# Altium footprint library Footprint_library.PcbLib: 28 footprints (part 2 of 2)
Each footprint in its own frame and in the unit in brackets; x right, y up, seen from the top. Pads: shape width x height; smd on the part's side, far side on the other; paste and mask are expansions set on the pad; w line width, h text height; cw(c..) or ccw(c..) is an arc to the next point about the centre after c.
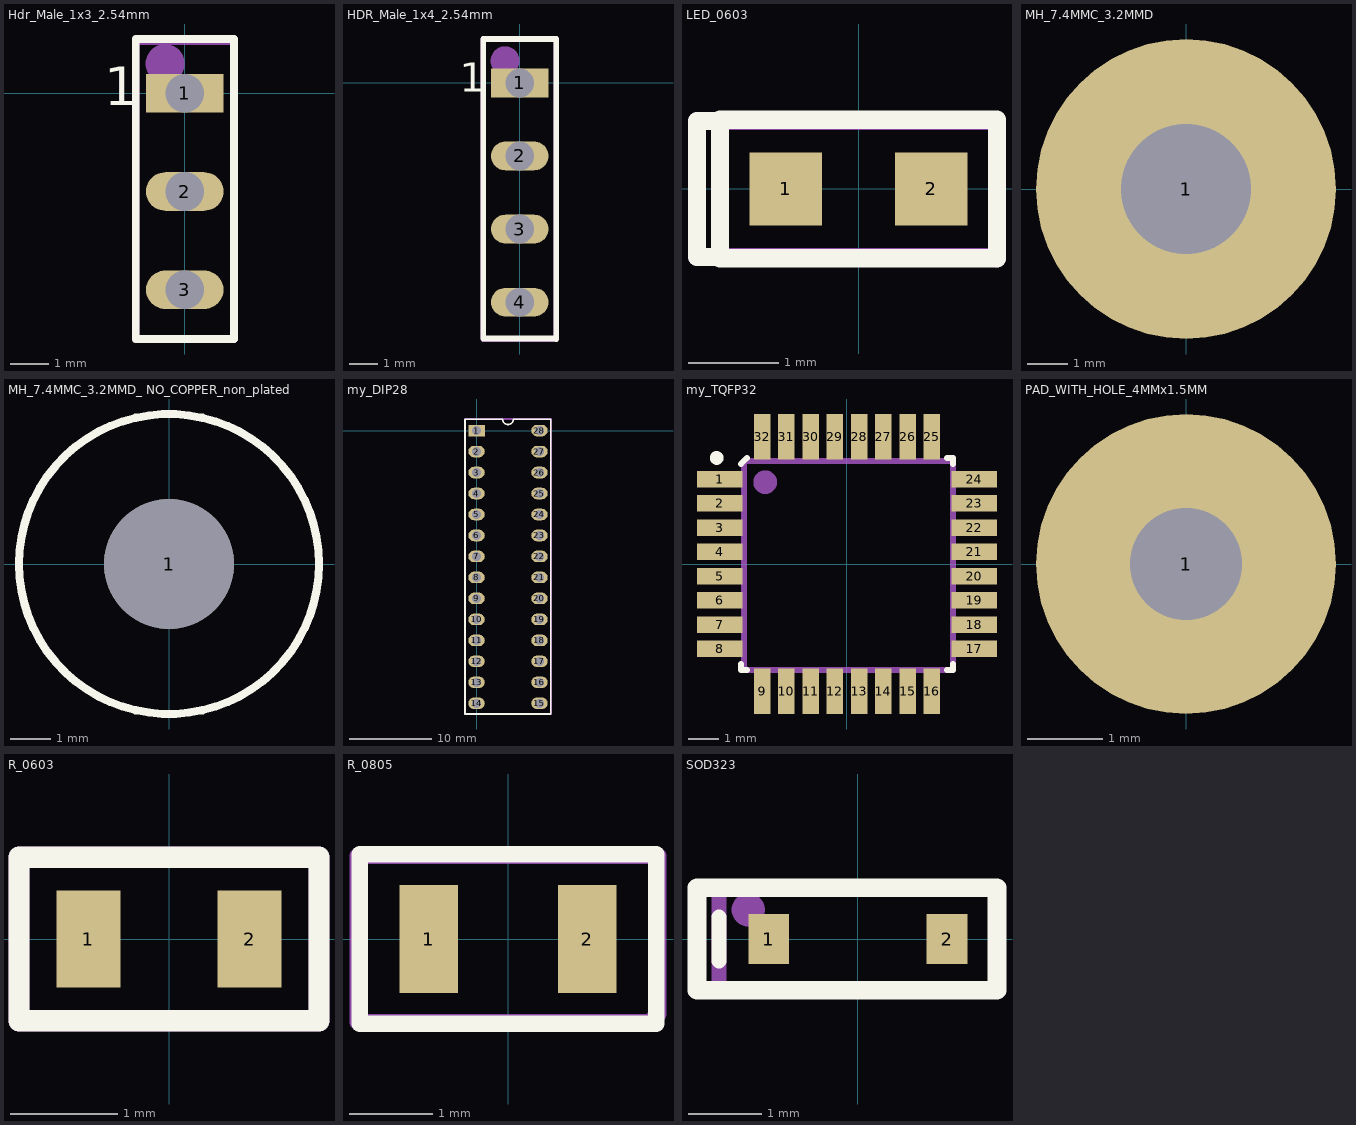
[diagram p1: the footprints below, top view; thin cyan lines are the x and y axes]

## Hdr_Male_1x3_2.54mm [mm]
pads (3):
  rect 2x1 hole 1: 1(0,0)
  oval 2x1 hole 1: 2(0,-2.54) 3(0,-5.08)
Top Overlay:
  lines w0.2: -1.27,-6.35 1.27,-6.35 1.27,1.4 -1.27,1.4 -1.27,-6.35
  text "1" at -2.086,-0.308 h1
Assembly Notes:
  circle w0.5: c-0.508,0.762 r0.254
  lines w0.2: -1.27,-6.35 1.27,-6.35 1.27,1.35 -1.27,1.35 -1.27,-6.35
  text "'.Designator'" at 0.508,-6.246 h1.52
3D body "User Library-PinHeaderX3.STEP": height 8.52, standoff -3.67, extent -1.46,-6.371 1.46,1.249

## HDR_Male_1x4_2.54mm [mm]
pads (4):
  rect 2x1 hole 1: 1(0,0)
  oval 2x1 hole 1: 2(0,-2.54) 3(0,-5.08) 4(0,-7.62)
Top Overlay:
  lines w0.2: 1.27,-8.9 1.27,1.524 -1.27,1.524 -1.27,-8.884 -1.016,-8.884 1.27,-8.884
  text "1" at -2.086,-0.308 h1
Assembly Notes:
  circle w0.5: c-0.508,0.762 r0.254
  lines w0.2: -1.27,-8.9 1.27,-8.9 1.27,1.524 -1.27,1.524 -1.27,-8.9
  text "'.Designator'" at 0.508,-8.646 h1.52
3D body "HDR_1x4_White.stp": height 8.39, standoff -3.11, extent -1.215,-8.718 1.195,1.042

## LED_0603 [mm]
pads (2):
  rect 0.8x0.8 smd: 1(-0.8,0) 2(0.8,0)
Top Overlay:
  lines w0.2: -1.536,-0.75 -1.778,-0.75 -1.778,0.75 -1.536,0.75 ; -1.524,-0.762 -1.524,0.762 1.524,0.762 1.524,-0.762 -1.524,-0.762
Assembly Notes:
  lines w0.2: -1.524,-0.75 -1.524,0.75 -1.778,0.75 ; -1.778,0.75 -1.778,-0.75 1.512,-0.75 1.524,-0.762 1.524,0.738 1.512,0.75 -1.778,0.75
  text "'.Designator'" at -1.507,-0.367 h0.7
3D body "User Library-LED SMD 0603 super red.step": height 0.65, standoff 0, extent -0.85,-0.4 0.85,0.4

## MH_7.4MMC_3.2MMD [mm]
pads (1):
  round 7.4 hole 3.2: 1(0,0)

## MH_7.4MMC_3.2MMD_ NO_COPPER_non_plated [mm]
pads (1):
  round 3.2 hole 3.2 unplated: 1(0,0)
Top Overlay:
  circle w0.2: c0,0 r3.7

## my_DIP28 [mm]
pads (28):
  rect 2x1.4 / inner rect 2x1.6 / far side rect 2x1.4 hole 1.1: 1(0,0)
  oval 2x1.4 / inner oval 2x1.6 / far side oval 2x1.4 hole 1.1: 2(0,-2.54) 3(0,-5.08) 4(0,-7.62) 5(0,-10.16) 6(0,-12.7) 7(0,-15.24) 8(0,-17.78) 9(0,-20.32) 10(0,-22.86) 11(0,-25.4) 12(0,-27.94) 13(0,-30.48) 14(0,-33.02) 15(7.62,-33.02) 16(7.62,-30.48) 17(7.62,-27.94) 18(7.62,-25.4) 19(7.62,-22.86) 20(7.62,-20.32) 21(7.62,-17.78) 22(7.62,-15.24) 23(7.62,-12.7) 24(7.62,-10.16) 25(7.62,-7.62) 26(7.62,-5.08) 27(7.62,-2.54) 28(7.62,0)
Top Overlay:
  lines w0.2: -1.39,1.27 -1.39,-34.31 8.985,-34.31 8.985,-25.6 8.985,-7.82 8.985,1.27 ; -1.39,1.37 3.175,1.37 ccw(c3.81,1.37) 4.445,1.37 8.985,1.37
Assembly Notes:
  circle w0.5: c0,0 r0.237
  lines w0.254: -1.39,-34.31 -1.39,1.39 9.01,1.39 9.01,-34.31 -1.39,-34.31
  text "'.Designator'" at 5.01,-19.31 h3
3D body "User Library-28 pin dip-1.step": height 7.55, standoff 1.33, extent -0.127,-34.461 7.747,1.481

## my_TQFP32 [mm]
pads (32):
  rect 1.5x0.55 smd mask+0.06: 1(-4.2,2.8) 2(-4.2,2) 3(-4.2,1.2) 4(-4.2,0.4) 5(-4.2,-0.4) 6(-4.2,-1.2) 7(-4.2,-2) 8(-4.2,-2.8) 17(4.2,-2.8) 18(4.2,-2) 19(4.2,-1.2) 20(4.2,-0.4) 21(4.2,0.4) 22(4.2,1.2) 23(4.2,2) 24(4.2,2.8)
  rect 0.55x1.5 smd mask+0.06: 9(-2.8,-4.2) 10(-2,-4.2) 11(-1.2,-4.2) 12(-0.4,-4.2) 13(0.4,-4.2) 14(1.2,-4.2) 15(2,-4.2) 16(2.8,-4.2) 25(2.8,4.2) 26(2,4.2) 27(1.2,4.2) 28(0.4,4.2) 29(-0.4,4.2) 30(-1.2,4.2) 31(-2,4.2) 32(-2.8,4.2)
Top Overlay:
  circle w0.254: c-4.3,3.5 r0.1
  lines w0.2: -3.5,-3.3 -3.5,-3.5 -3.3,-3.5 ; -3.5,3.3 -3.3,3.5 ; 3.3,-3.5 3.5,-3.5 3.5,-3.3 ; 3.3,3.5 3.5,3.5 3.5,3.3
Assembly Notes:
  circle w0.5: c-2.7,2.7 r0.141
  lines w0.2: -3.4,-3.4 -3.4,3.4 3.4,3.4 3.5,3.5 3.5,-3.5 -3.3,-3.5 -3.4,-3.4
  text "'.Designator'" at -2.5,-0.6 h1.8
3D body "User Library-tqfp32.step": height 1.2, standoff 0, extent -4.599,-4.599 4.599,4.6

## PAD_WITH_HOLE_4MMx1.5MM [mm]
pads (1):
  round 4 hole 1.5: 1(0,0)

## PCBComponent_1 [mm]

## R_0603 [mm]
pads (2):
  rect 0.6x0.9 smd: 1(-0.75,0) 2(0.75,0)
Top Overlay:
  lines w0.2: -1.397,-0.762 -1.397,0.762 1.397,0.762 1.397,-0.762 -1.397,-0.762
Assembly Notes:
  lines w0.2: -1.397,-0.762 -1.397,0.762 1.397,0.762 1.397,-0.762 -1.397,-0.762
  text "'.Designator'" at -1.119,-0.335 h0.6
3D body "R0603.step": height 0.85, standoff 0.01, extent -0.8,-0.4 0.8,0.4

## R_0805 [mm]
pads (2):
  rect 0.7x1.3 smd: 1(-0.95,0) 2(0.95,0)
Top Overlay:
  lines w0.2: -1.778,-1.016 -1.778,1.016 1.778,1.016 1.778,-1.016 -1.778,-1.016
Assembly Notes:
  lines w0.2: -1.8,-1 -1.8,1 1.8,1 1.8,-0.9 1.7,-1 -1.8,-1
  text "'.Designator'" at -1.578,-0.467 h1
3D body "User Library-Chip Resistor2 (1).step": height 0.61, standoff 0.01, extent -1,-0.6 1,0.6

## SOD323 [mil]
pads (2):
  rect 22x27 smd: 1(-48,0) 2(48,0)
Top Overlay:
  lines w7.87: -74.8,-11.81 -74.8,11.81
  lines w10: -86.61,-27.56 -86.61,27.56 74.8,27.56 74.8,-27.56 -86.61,-27.56
Assembly Notes:
  circle w10: c-59.06,15.75 r3.94
  lines w7.87: -74.8,-27.56 74.8,-27.56 74.8,27.56 -74.8,27.56 -74.8,-27.56
  text "'.Designator'" at -86.61,-18.38 h39.37
3D body "User Library-SOD323.step": height 39.48, standoff 0.5, extent -49.21,-23.62 49.21,25.59